# Altium schematic symbol library 100nF.SchLib: 1 symbol
Pins are listed as number, name and electrical type; pins without a type are passive.

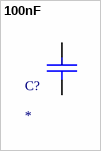
[diagram p0: symbol 100nF]

## 100nF
designator C?
pins: 1, 2